# Altium footprint library 沙漏.PcbLib: 8 footprints
Each footprint in its own frame and in the unit in brackets; x right, y up, seen from the top. Pads: shape width x height; smd on the part's side, far side on the other; paste and mask are expansions set on the pad; w line width, h text height; cw(c..) or ccw(c..) is an arc to the next point about the centre after c.
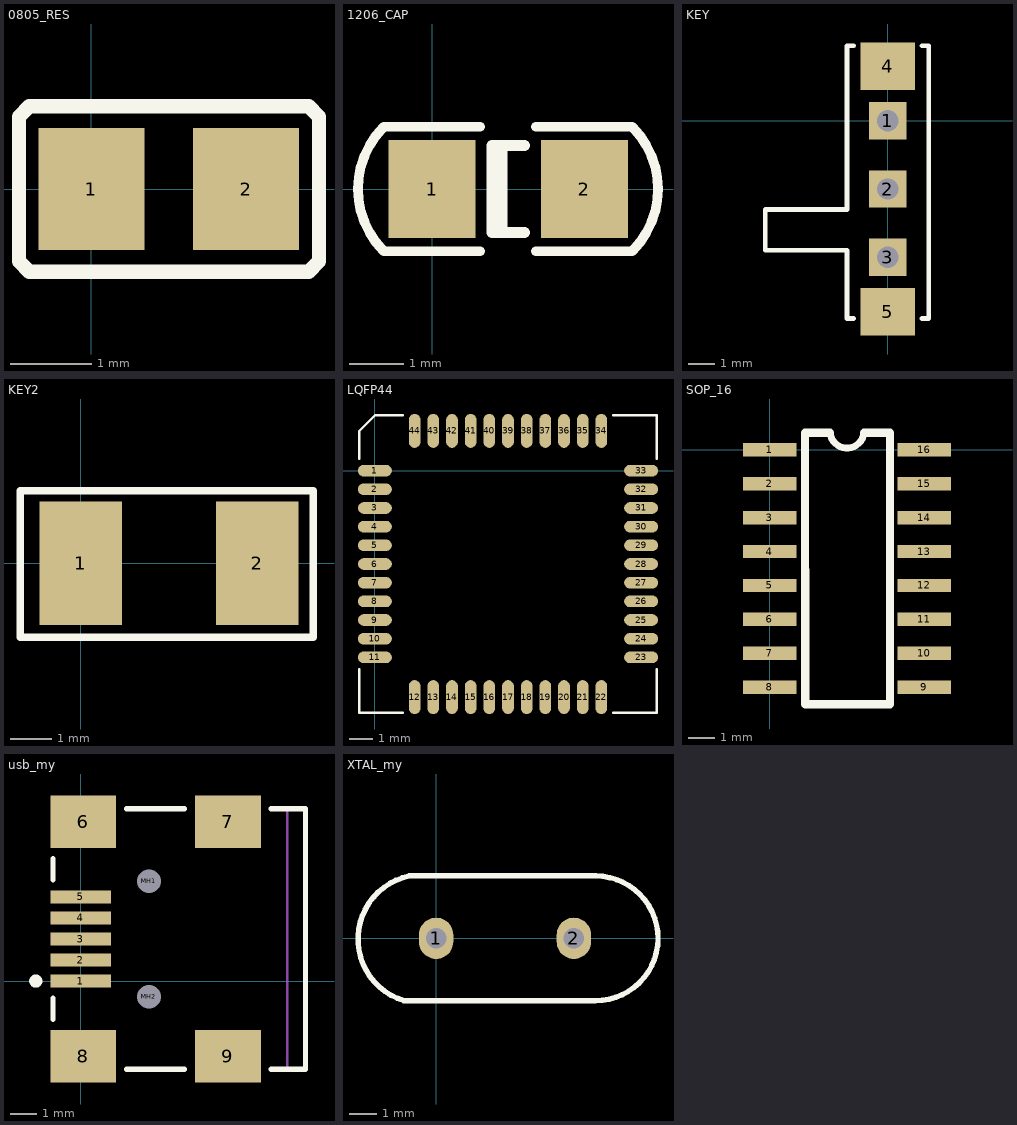
[diagram p0: the footprints below, top view; thin cyan lines are the x and y axes]

## 0805_RES [mm]
pads (2):
  rect 1.3x1.5 smd: 1(0,0) 2(1.9,0)
Top Overlay:
  lines w0.178: -0.889,-0.889 -0.762,-1.016 2.667,-1.016 2.794,-0.889 2.794,0.889 2.667,1.016 -0.762,1.016 -0.889,0.889 -0.889,-0.889

## 1206_CAP [mm]
pads (2):
  rect 1.6x1.8 smd: 1(0,0) 2(2.8,0)
Top Overlay:
  lines w0.178: 0.889,-1.143 -0.889,-1.143 cw(c0.254,0) -0.889,1.143 0.889,1.143 ; 1.905,-1.143 3.683,-1.143 ccw(c2.54,0) 3.683,1.143 1.905,1.143
  lines w0.2: 1.29,-0.8 1.29,0.8 ; 1.7,-0.8 1.1,-0.8 1.1,0.8 1.7,0.8

## KEY [mil]
pads (5):
  rect 55x55 hole 31.5: 1(0,0) 2(0,-100) 3(0,-200)
  rect 80x70 smd: 4(0,80) 5(0,-280)
Top Overlay:
  lines w7: -50,-290 -60,-290 -60,-190 -160,-190 -180,-190 -180,-130 -160,-130 -60,-130 -60,110 -50,110 ; 50,-290 60,-290 60,110 50,110

## KEY2 [mm]
pads (2):
  rect 2x3 smd: 1(0,0) 2(4.276,0.006)
Top Layer:
  lines w0.4: 0.047,-0.092 0.047,0.614
Top Overlay:
  lines w0.178: -1.473,-1.794 -1.473,1.762 5.639,1.762 5.639,-1.794 -1.473,-1.794

## LQFP44 [mm]
pads (44):
  oval 1.45x0.5 smd: 1(0,0) 2(0,-0.8) 3(0,-1.6) 4(0,-2.4) 5(0,-3.2) 6(0,-4) 7(0,-4.8) 8(0,-5.6) 9(0,-6.4) 10(0,-7.2) 11(0,-8) 23(11.4,-8) 24(11.4,-7.2) 25(11.4,-6.4) 26(11.4,-5.6) 27(11.4,-4.8) 28(11.4,-4) 29(11.4,-3.2) 30(11.4,-2.4) 31(11.4,-1.6) 32(11.4,-0.8) 33(11.4,0)
  oval 0.5x1.45 smd: 12(1.7,-9.7) 13(2.5,-9.7) 14(3.3,-9.7) 15(4.1,-9.7) 16(4.9,-9.7) 17(5.7,-9.7) 18(6.5,-9.7) 19(7.3,-9.7) 20(8.1,-9.7) 21(8.9,-9.7) 22(9.7,-9.7) 34(9.7,1.7) 35(8.9,1.7) 36(8.1,1.7) 37(7.3,1.7) 38(6.5,1.7) 39(5.7,1.7) 40(4.9,1.7) 41(4.1,1.7) 42(3.3,1.7) 43(2.5,1.7) 44(1.7,1.7)
Top Overlay:
  lines w0.1: -0.675,-8.5 -0.675,-10.375 1.2,-10.375 ; -0.675,0.5 -0.675,1.7 0,2.375 1.2,2.375 ; 10.2,-10.375 12.075,-10.375 12.075,-8.5 ; 10.2,2.375 12.075,2.375 12.075,0.5

## SOP_16 [mm]
pads (16):
  rect 2x0.5 smd: 1(0,0) 2(0,-1.27) 3(0,-2.54) 4(0,-3.81) 6(0,-6.35) 7(0,-7.62) 8(0,-8.89) 9(5.788,-8.89) 10(5.788,-7.62) 11(5.788,-6.35) 12(5.788,-5.08) 13(5.788,-3.81) 14(5.788,-2.54) 15(5.788,-1.27) 16(5.788,0)
  rect 2x0.5 smd paste+0: 5(0,-5.08)
Top Overlay:
  lines w0.254: 2.259,0.635 ccw(c2.894,0.698) 3.529,0.635
  lines w0.305: 2.259,0.635 1.329,0.635 1.329,-9.527 4.505,-9.527 4.502,0.635 3.529,0.635

## usb_my [mm]
pads (11):
  rect 2.3x0.5 smd: 1(0,0) 2(0,0.8) 3(0,1.6) 4(0,2.4) 5(0,3.2)
  rect 2.5x2 smd: 6(0.1,6.05) 7(5.6,6.05) 8(0.1,-2.85) 9(5.6,-2.85)
  round 0.6 hole 0.9 unplated: MH1(2.6,3.8) MH2(2.6,-0.6)
Top Overlay:
  circle w0.25: c-1.7,0 r0.125
  lines w0.2: -1.05,-1.45 -1.05,-0.65 ; -1.05,3.85 -1.05,4.65 ; 1.75,-3.35 3.95,-3.35 ; 1.75,6.55 3.95,6.55 ; 7.25,-3.35 8.55,-3.35 8.55,6.55 7.25,6.55
Mechanical 1:
  lines w0.1: 7.85,-3.35 7.85,6.55

## XTAL_my [mil]
pads (2):
  oval 50x60 hole 30: 1(0,0) 2(200,0)
Top Overlay:
  lines w7.87: -46.84,-90.55 231,-90.55 ccw(c231.61,0) 232.06,90.55 -38.98,90.55 ; -46.84,-90.47 cw(c-20,-1) -38.98,90.46
3D body: height 141.73, standoff -118.11, extent -116.14,-89 316.14,87.81